# Altium schematic symbol library 691 310 340 0xx.SchLib: 23 symbols
Pins are listed as number, name and electrical type; pins without a type are passive.

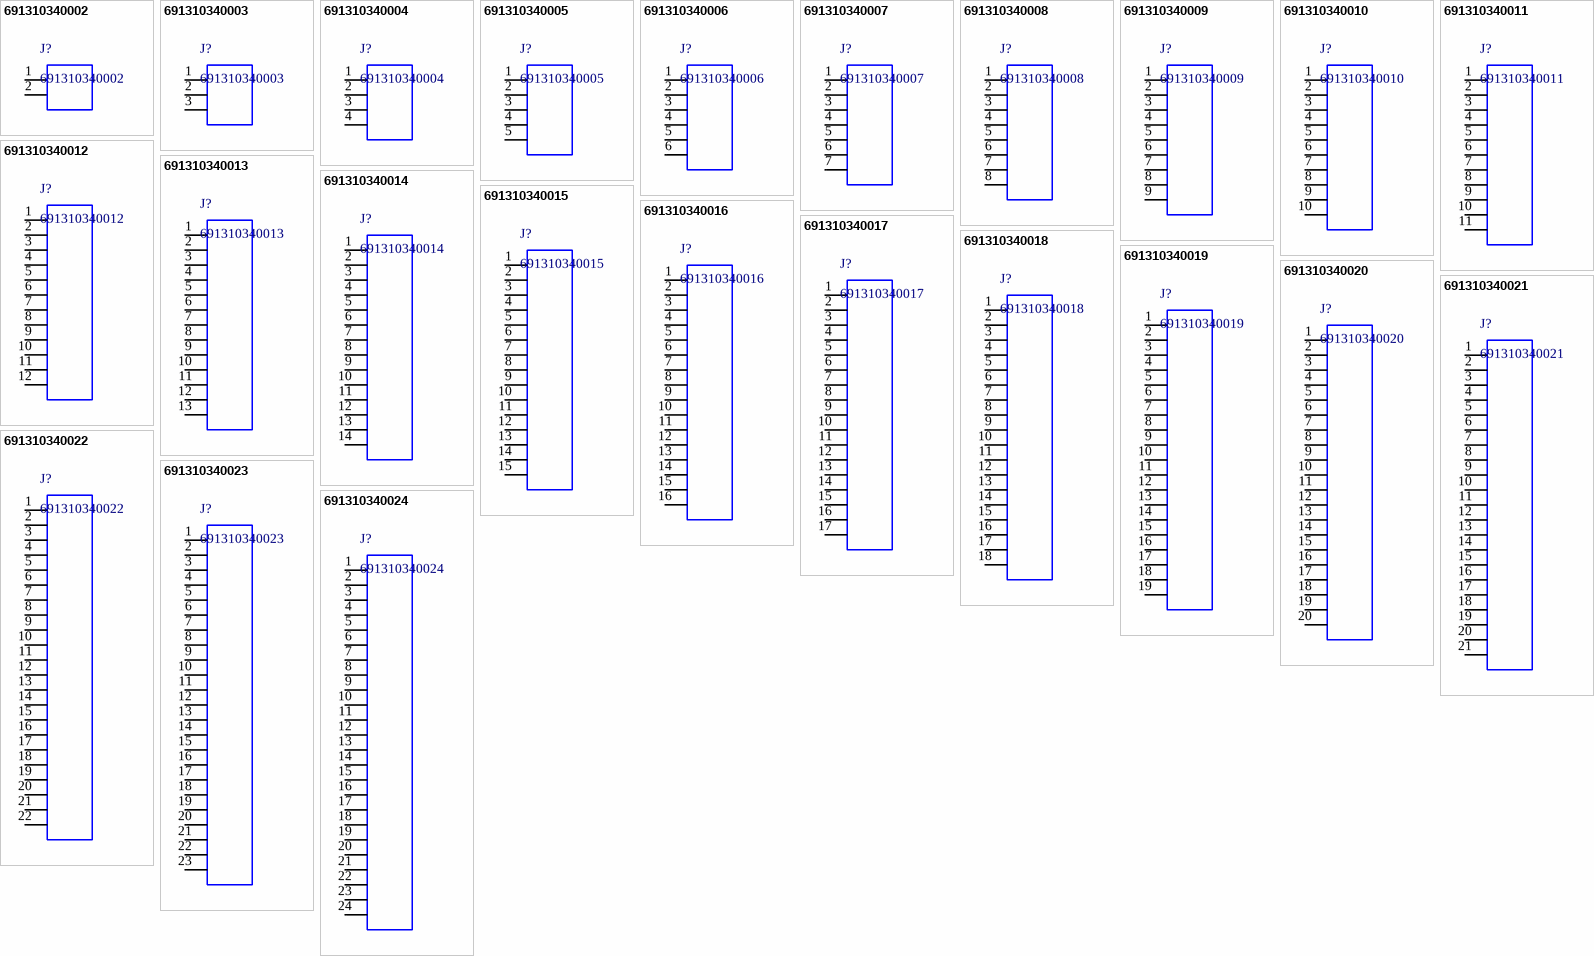
[diagram p0: symbols 691310340002 to 691310340024]

## 691310340002
designator J?
WR-TBL Terminal Blocks - Serie 3103; Manufacturer: Wurth Elektronik; ComponentLink1 Description: Manufacturer; ComponentLink2 Description: Datasheet; ComponentLink1URL: http://www.we-online.de; ComponentLink2URL: http://katalog.we-online.de/em/datasheet/6913103400xx.pdf; Created by: Baojun Chen; Created Date: 8.Sep.2015; partNo: 691310340002
footprint 691310340002 (Serie 3103 - 3.81 mm _ 2 pins)
pins: 1, 2

## 691310340003
designator J?
WR-TBL Terminal Blocks - Serie 3103; Manufacturer: Wurth Elektronik; ComponentLink1 Description: Manufacturer; ComponentLink2 Description: Datasheet; ComponentLink1URL: http://www.we-online.de; ComponentLink2URL: http://katalog.we-online.de/em/datasheet/6913103400xx.pdf; Created by: Baojun Chen; Created Date: 8.Sep.2015; partNo: 691310340003
footprint 691310340003 (Serie 3103 - 3.81 mm _ 3 pins)
pins: 1, 2, 3

## 691310340004
designator J?
WR-TBL Terminal Blocks - Serie 3103; Manufacturer: Wurth Elektronik; ComponentLink1 Description: Manufacturer; ComponentLink2 Description: Datasheet; ComponentLink1URL: http://www.we-online.de; ComponentLink2URL: http://katalog.we-online.de/em/datasheet/6913103400xx.pdf; Created by: Baojun Chen; Created Date: 8.Sep.2015; partNo: 691310340004
footprint 691310340004 (Serie 3103 - 3.81 mm _ 4 pins)
pins: 1, 2, 3, 4

## 691310340005
designator J?
WR-TBL Terminal Blocks - Serie 3103; Manufacturer: Wurth Elektronik; ComponentLink1 Description: Manufacturer; ComponentLink2 Description: Datasheet; ComponentLink1URL: http://www.we-online.de; ComponentLink2URL: http://katalog.we-online.de/em/datasheet/6913103400xx.pdf; Created by: Baojun Chen; Created Date: 8.Sep.2015; partNo: 691310340005
footprint 691310340005 (Serie 3103 - 3.81 mm _ 5 pins)
pins: 1, 2, 3, 4, 5

## 691310340006
designator J?
WR-TBL Terminal Blocks - Serie 3103; Manufacturer: Wurth Elektronik; ComponentLink1 Description: Manufacturer; ComponentLink2 Description: Datasheet; ComponentLink1URL: http://www.we-online.de; ComponentLink2URL: http://katalog.we-online.de/em/datasheet/6913103400xx.pdf; Created by: Baojun Chen; Created Date: 8.Sep.2015; partNo: 691310340006
footprint 691310340006 (Serie 3103 - 3.81 mm _ 6 pins)
pins: 1, 2, 3, 4, 5, 6

## 691310340007
designator J?
WR-TBL Terminal Blocks - Serie 3103; Manufacturer: Wurth Elektronik; ComponentLink1 Description: Manufacturer; ComponentLink2 Description: Datasheet; ComponentLink1URL: http://www.we-online.de; ComponentLink2URL: http://katalog.we-online.de/em/datasheet/6913103400xx.pdf; Created by: Baojun Chen; Created Date: 8.Sep.2015; partNo: 691310340007
footprint 691310340007 (Serie 3103 - 3.81 mm _ 7 pins)
pins: 1, 2, 3, 4, 5, 6, 7

## 691310340008
designator J?
WR-TBL Terminal Blocks - Serie 3103; Manufacturer: Wurth Elektronik; ComponentLink1 Description: Manufacturer; ComponentLink2 Description: Datasheet; ComponentLink1URL: http://www.we-online.de; ComponentLink2URL: http://katalog.we-online.de/em/datasheet/6913103400xx.pdf; Created by: Baojun Chen; Created Date: 8.Sep.2015; partNo: 691310340008
footprint 691310340008 (Serie 3103 - 3.81 mm _ 8 pins)
pins: 1, 2, 3, 4, 5, 6, 7, 8

## 691310340009
designator J?
WR-TBL Terminal Blocks - Serie 3103; Manufacturer: Wurth Elektronik; ComponentLink1 Description: Manufacturer; ComponentLink2 Description: Datasheet; ComponentLink1URL: http://www.we-online.de; ComponentLink2URL: http://katalog.we-online.de/em/datasheet/6913103400xx.pdf; Created by: Baojun Chen; Created Date: 8.Sep.2015; partNo: 691310340009
footprint 691310340009 (Serie 3103 - 3.81 mm _ 9 pins)
pins: 1, 2, 3, 4, 5, 6, 7, 8, 9

## 691310340010
designator J?
WR-TBL Terminal Blocks - Serie 3103; Manufacturer: Wurth Elektronik; ComponentLink1 Description: Manufacturer; ComponentLink2 Description: Datasheet; ComponentLink1URL: http://www.we-online.de; ComponentLink2URL: http://katalog.we-online.de/em/datasheet/6913103400xx.pdf; Created by: Baojun Chen; Created Date: 8.Sep.2015; partNo: 691310340010
footprint 691310340010 (Serie 3103 - 3.81 mm _ 10 pins)
pins: 1, 2, 3, 4, 5, 6, 7, 8, 9, 10

## 691310340011
designator J?
WR-TBL Terminal Blocks - Serie 3103; Manufacturer: Wurth Elektronik; ComponentLink1 Description: Manufacturer; ComponentLink2 Description: Datasheet; ComponentLink1URL: http://www.we-online.de; ComponentLink2URL: http://katalog.we-online.de/em/datasheet/6913103400xx.pdf; Created by: Baojun Chen; Created Date: 8.Sep.2015; partNo: 691310340011
footprint 691310340011 (Serie 3103 - 3.81 mm _ 11 pins)
pins: 1, 2, 3, 4, 5, 6, 7, 8, 9, 10, 11

## 691310340012
designator J?
WR-TBL Terminal Blocks - Serie 3103; Manufacturer: Wurth Elektronik; ComponentLink1 Description: Manufacturer; ComponentLink2 Description: Datasheet; ComponentLink1URL: http://www.we-online.de; ComponentLink2URL: http://katalog.we-online.de/em/datasheet/6913103400xx.pdf; Created by: Baojun Chen; Created Date: 8.Sep.2015; partNo: 691310340012
footprint 691310340012 (Serie 3103 - 3.81 mm _ 12 pins)
pins: 1, 2, 3, 4, 5, 6, 7, 8, 9, 10, 11, 12

## 691310340013
designator J?
WR-TBL Terminal Blocks - Serie 3103; Manufacturer: Wurth Elektronik; ComponentLink1 Description: Manufacturer; ComponentLink2 Description: Datasheet; ComponentLink1URL: http://www.we-online.de; ComponentLink2URL: http://katalog.we-online.de/em/datasheet/6913103400xx.pdf; Created by: Baojun Chen; Created Date: 8.Sep.2015; partNo: 691310340013
footprint 691310340013 (Serie 3103 - 3.81 mm _ 13 pins)
pins: 1, 2, 3, 4, 5, 6, 7, 8, 9, 10, 11, 12, 13

## 691310340014
designator J?
WR-TBL Terminal Blocks - Serie 3103; Manufacturer: Wurth Elektronik; ComponentLink1 Description: Manufacturer; ComponentLink2 Description: Datasheet; ComponentLink1URL: http://www.we-online.de; ComponentLink2URL: http://katalog.we-online.de/em/datasheet/6913103400xx.pdf; Created by: Baojun Chen; Created Date: 8.Sep.2015; partNo: 691310340014
footprint 691310340014 (Serie 3103 - 3.81 mm _ 14 pins)
pins: 1, 2, 3, 4, 5, 6, 7, 8, 9, 10, 11, 12, 13, 14

## 691310340015
designator J?
WR-TBL Terminal Blocks - Serie 3103; Manufacturer: Wurth Elektronik; ComponentLink1 Description: Manufacturer; ComponentLink2 Description: Datasheet; ComponentLink1URL: http://www.we-online.de; ComponentLink2URL: http://katalog.we-online.de/em/datasheet/6913103400xx.pdf; Created by: Baojun Chen; Created Date: 8.Sep.2015; partNo: 691310340015
footprint 691310340015 (Serie 3103 - 3.81 mm _ 15 pins)
pins: 1, 2, 3, 4, 5, 6, 7, 8, 9, 10, 11, 12, 13, 14, 15

## 691310340016
designator J?
WR-TBL Terminal Blocks - Serie 3103; Manufacturer: Wurth Elektronik; ComponentLink1 Description: Manufacturer; ComponentLink2 Description: Datasheet; ComponentLink1URL: http://www.we-online.de; ComponentLink2URL: http://katalog.we-online.de/em/datasheet/6913103400xx.pdf; Created by: Baojun Chen; Created Date: 8.Sep.2015; partNo: 691310340016
footprint 691310340016 (Serie 3103 - 3.81 mm _ 16 pins)
pins: 1, 2, 3, 4, 5, 6, 7, 8, 9, 10, 11, 12, 13, 14, 15, 16

## 691310340017
designator J?
WR-TBL Terminal Blocks - Serie 3103; Manufacturer: Wurth Elektronik; ComponentLink1 Description: Manufacturer; ComponentLink2 Description: Datasheet; ComponentLink1URL: http://www.we-online.de; ComponentLink2URL: http://katalog.we-online.de/em/datasheet/6913103400xx.pdf; Created by: Baojun Chen; Created Date: 8.Sep.2015; partNo: 691310340017
footprint 691310340017 (Serie 3103 - 3.81 mm _ 17 pins)
pins: 1, 2, 3, 4, 5, 6, 7, 8, 9, 10, 11, 12, 13, 14, 15, 16, 17

## 691310340018
designator J?
WR-TBL Terminal Blocks - Serie 3103; Manufacturer: Wurth Elektronik; ComponentLink1 Description: Manufacturer; ComponentLink2 Description: Datasheet; ComponentLink1URL: http://www.we-online.de; ComponentLink2URL: http://katalog.we-online.de/em/datasheet/6913103400xx.pdf; Created by: Baojun Chen; Created Date: 8.Sep.2015; partNo: 691310340018
footprint 691310340018 (Serie 3103 - 3.81 mm _ 18 pins)
pins: 1, 2, 3, 4, 5, 6, 7, 8, 9, 10, 11, 12, 13, 14, 15, 16, 17, 18

## 691310340019
designator J?
WR-TBL Terminal Blocks - Serie 3103; Manufacturer: Wurth Elektronik; ComponentLink1 Description: Manufacturer; ComponentLink2 Description: Datasheet; ComponentLink1URL: http://www.we-online.de; ComponentLink2URL: http://katalog.we-online.de/em/datasheet/6913103400xx.pdf; Created by: Baojun Chen; Created Date: 8.Sep.2015; partNo: 691310340019
footprint 691310340019 (Serie 3103 - 3.81 mm _ 19 pins)
pins: 1, 2, 3, 4, 5, 6, 7, 8, 9, 10, 11, 12, 13, 14, 15, 16, 17, 18, 19

## 691310340020
designator J?
WR-TBL Terminal Blocks - Serie 3103; Manufacturer: Wurth Elektronik; ComponentLink1 Description: Manufacturer; ComponentLink2 Description: Datasheet; ComponentLink1URL: http://www.we-online.de; ComponentLink2URL: http://katalog.we-online.de/em/datasheet/6913103400xx.pdf; Created by: Baojun Chen; Created Date: 8.Sep.2015; partNo: 691310340020
footprint 691310340020 (Serie 3103 - 3.81 mm _ 20 pins)
pins: 1, 2, 3, 4, 5, 6, 7, 8, 9, 10, 11, 12, 13, 14, 15, 16, 17, 18, 19, 20

## 691310340021
designator J?
WR-TBL Terminal Blocks - Serie 3103; Manufacturer: Wurth Elektronik; ComponentLink1 Description: Manufacturer; ComponentLink2 Description: Datasheet; ComponentLink1URL: http://www.we-online.de; ComponentLink2URL: http://katalog.we-online.de/em/datasheet/6913103400xx.pdf; Created by: Baojun Chen; Created Date: 8.Sep.2015; partNo: 691310340021
footprint 691310340021 (Serie 3103 - 3.81 mm _ 21 pins)
pins: 1, 2, 3, 4, 5, 6, 7, 8, 9, 10, 11, 12, 13, 14, 15, 16, 17, 18, 19, 20, 21

## 691310340022
designator J?
WR-TBL Terminal Blocks - Serie 3103; Manufacturer: Wurth Elektronik; ComponentLink1 Description: Manufacturer; ComponentLink2 Description: Datasheet; ComponentLink1URL: http://www.we-online.de; ComponentLink2URL: http://katalog.we-online.de/em/datasheet/6913103400xx.pdf; Created by: Baojun Chen; Created Date: 8.Sep.2015; partNo: 691310340022
footprint 691310340022 (Serie 3103 - 3.81 mm _ 22 pins)
pins: 1, 2, 3, 4, 5, 6, 7, 8, 9, 10, 11, 12, 13, 14, 15, 16, 17, 18, 19, 20, 21, 22

## 691310340023
designator J?
WR-TBL Terminal Blocks - Serie 3103; Manufacturer: Wurth Elektronik; ComponentLink1 Description: Manufacturer; ComponentLink2 Description: Datasheet; ComponentLink1URL: http://www.we-online.de; ComponentLink2URL: http://katalog.we-online.de/em/datasheet/6913103400xx.pdf; Created by: Baojun Chen; Created Date: 8.Sep.2015; partNo: 691310340023
footprint 691310340023 (Serie 3103 - 3.81 mm _ 23 pins)
pins: 1, 2, 3, 4, 5, 6, 7, 8, 9, 10, 11, 12, 13, 14, 15, 16, 17, 18, 19, 20, 21, 22, 23

## 691310340024
designator J?
WR-TBL Terminal Blocks - Serie 3103; Manufacturer: Wurth Elektronik; ComponentLink1 Description: Manufacturer; ComponentLink2 Description: Datasheet; ComponentLink1URL: http://www.we-online.de; ComponentLink2URL: http://katalog.we-online.de/em/datasheet/6913103400xx.pdf; Created by: Baojun Chen; Created Date: 8.Sep.2015; partNo: 691310340024
footprint 691307300024 (Serie 3073 - 3.81 mm _ 24 pins)
pins: 1, 2, 3, 4, 5, 6, 7, 8, 9, 10, 11, 12, 13, 14, 15, 16, 17, 18, 19, 20, 21, 22, 23, 24